# Altium schematic symbol library ControlSwitchSchlib.SchLib: 5 symbols
Pins are listed as number, name and electrical type; pins without a type are passive.

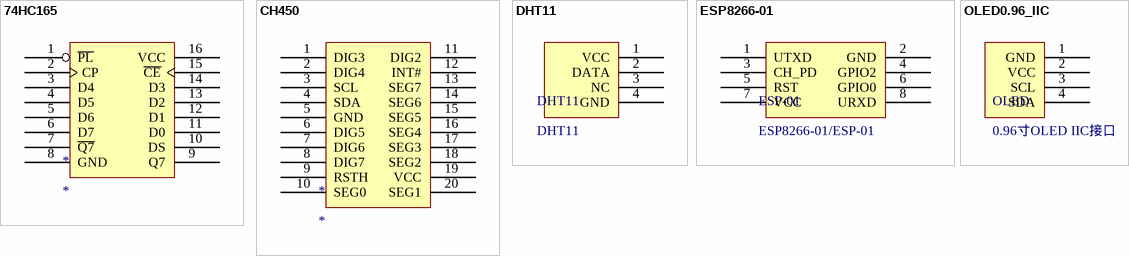
[diagram p0: symbols 74HC165 to OLED0.96_IIC]

## 74HC165
designator *
footprint SOP16N_N (10.3*7*1.8mm（长宽高）)
footprint DIP16-300_MH (带底座 19.3*7.6*3.8(长宽高）)
pins: 1 ~{PL}, 2 CP, 3 D4, 4 D5, 5 D6, 6 D7, 7 ~{Q7}, 8 GND (power), 9 Q7, 10 DS, 11 D0, 12 D1, 13 D2, 14 D3, 15 ~{CE}, 16 VCC (power)

## CH450
designator *
footprint sop16 (（蒜米工坊）)
footprint sop16_m (10.3*6.2*1.8mm（长宽高）)
footprint dip20
pins: 1 DIG3, 2 DIG4, 3 SCL, 4 SDA, 5 GND, 6 DIG5, 7 DIG6, 8 DIG7, 9 RSTH, 10 SEG0, 11 DIG2, 12 INT#, 13 SEG7, 14 SEG6, 15 SEG5, 16 SEG4, 17 SEG3, 18 SEG2, 19 VCC, 20 SEG1

## DHT11
designator DHT11
footprint HDR2.54-LI-4P (排针，4脚)
pins: 1 VCC, 2 DATA, 3 NC, 4 GND

## ESP8266-01
designator ESP-01, comment ESP8266-01/ESP-01
ESP8266-01 接口
footprint HDR2.54-LI-2x4P (双排排针，4x2脚)
footprint esp-01s
pins: 1 UTXD, 2 GND, 3 CH_PD, 4 GPIO2, 5 RST, 6 GPIO0, 7 VCC (power), 8 URXD

## OLED0.96_IIC
designator OLED, comment 0.96寸OLED IIC接口
0.96寸OLED  IIC接口
footprint HDR2.54-M-LI-4P (排母，4脚)
footprint OLED 0.96-12864_IIC (长：27.8mm，宽：27.3mm，)
pins: 1 GND, 2 VCC, 3 SCL, 4 SDA